# Altium footprint library misc.PcbLib: 4 footprints
Each footprint in its own frame and in the unit in brackets; x right, y up, seen from the top. Pads: shape width x height; smd on the part's side, far side on the other; paste and mask are expansions set on the pad; w line width, h text height; cw(c..) or ccw(c..) is an arc to the next point about the centre after c.
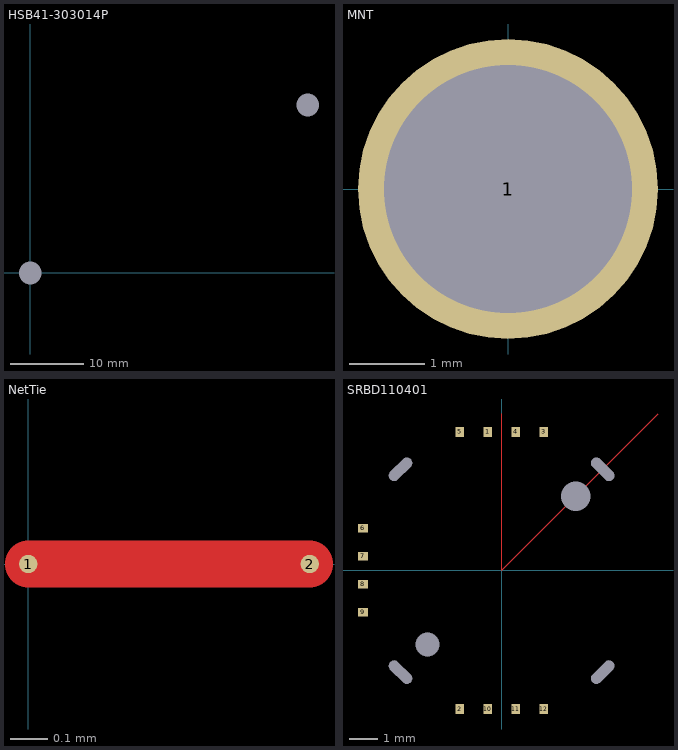
[diagram p0: the footprints below, top view; thin cyan lines are the x and y axes]

## HSB41-303014P [mm]
pads (2):
  rect 0x0 hole 3.1 mask+0: 1(0,0) 1(38,23)
3D body "HSB41-303014P.stp": height 15.78, standoff -1.95, extent -3.5,-3.5 41.5,26.5

## MNT [mm]
pads (1):
  round 4 hole 3.3 mask+0: 1(0,0)

## NetTie [mm]
pads (2):
  round 0.05 smd paste-2539.97 mask+0: 1(0,0) 2(0.762,0)
Top Layer:
  lines w0.127: 0,0 0.762,0

## SRBD110401 [mm]
pads (18):
  rect 0.305x0.356 smd: 1(-0.5,4.95) 2(-1.5,-4.95) 3(1.5,4.95) 4(0.5,4.95) 5(-1.5,4.95) 10(-0.5,-4.95) 11(0.5,-4.95) 12(1.5,-4.95)
  rect 0.356x0.305 smd: 6(-4.95,1.5) 7(-4.95,0.5) 8(-4.95,-0.5) 9(-4.95,-1.5)
  rect 0x0 hole 0.381 slot 1.016 at 135 deg rot 135 mask+0: 13(3.61,3.61) 15(-3.61,-3.631)
  rect 0x0 hole 0.381 slot 1.016 at 45 deg rot 45 mask+0: 14(-3.61,3.61) 16(3.61,-3.631)
  rect 0x0.85 hole 0.864 mask+0: NA(-2.65,-2.65)
  rect 0x0 hole 1.05 mask+0: NA(2.65,2.65)
Top Layer:
  lines w0.025: 0,5.588 0,0 5.588,5.588
3D body "SRBD110401.stp": height 3.36, standoff -0.45, extent -5.285,-5.285 5.2,5.285